# EAGLE library part AT45DB161E (library aurai)
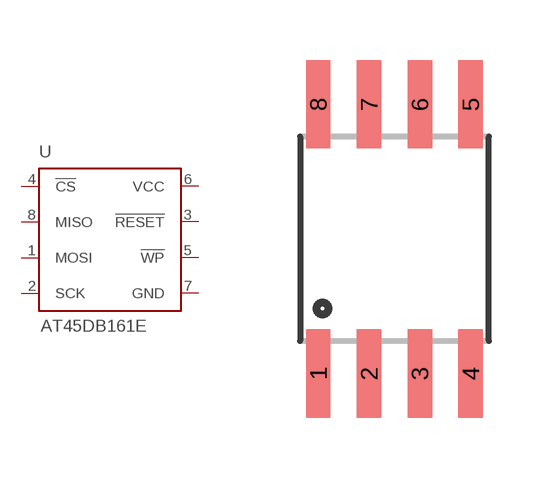
[diagram p4: symbol with the pads of SO08-EIAJ; footprint SO08-EIAJ]

Designator prefix -

## AT45DB161E-SHD2B-T (PRT_MSR: 556-AT45DB161ESHD2BT)  [SO08-EIAJ]
1  MOSI  in
2  SCK  in
3  !RESET  in
4  !CS  in
5  !WP  in
6  VCC  pwr
7  GND  pwr
8  MISO  out

## Footprint SO08-EIAJ (pad centres in mm)
Slightly wider version of the SOIC-8
smd 0.61 x 2.21: 1 -1.905,-3.378; 2 -0.635,-3.378; 3 0.635,-3.378; 4 1.905,-3.378; 5 1.905,3.353; 6 0.635,3.353; 7 -0.635,3.353; 8 -1.905,3.353